# Altium footprint library Discrete.PcbLib: 34 footprints (part 3 of 3)
Each footprint in its own frame and in the unit in brackets; x right, y up, seen from the top. Pads: shape width x height; smd on the part's side, far side on the other; paste and mask are expansions set on the pad; w line width, h text height; cw(c..) or ccw(c..) is an arc to the next point about the centre after c.
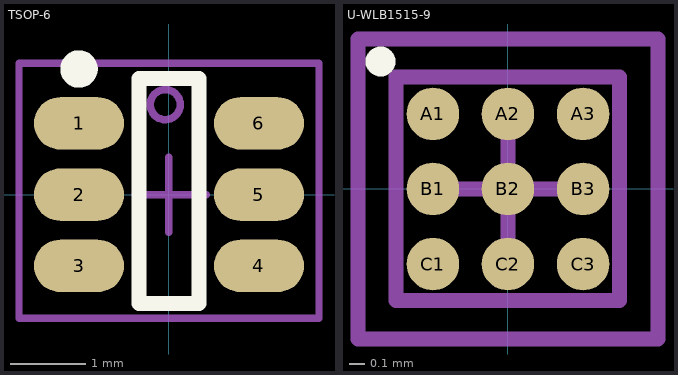
[diagram p2: the footprints below, top view; thin cyan lines are the x and y axes]

## TSOP-6 [mm] "TSOP-6"
height 1.2
pads (6):
  oval 1.2x0.7 smd: 1(-1.2,0.95) 2(-1.2,0) 3(-1.2,-0.95) 4(1.2,-0.95) 5(1.2,0) 6(1.2,0.95)
Top Overlay:
  circle w0.25: c-1.2,1.675 r0.125
  lines w0.2: -0.4,-1.45 0.4,-1.45 0.4,1.55 -0.4,1.55 -0.4,-1.45
Mechanical 13:
  circle w0.1: c-0.05,1.2 r0.2
  lines w0.1: -0.4,-1.45 0.4,-1.45 0.4,1.55 -0.4,1.55 -0.4,-1.45
  text ".Designator" at -0.8,-1.55 h0.5
Mechanical 15:
  lines w0.1: -0.45,0 0.5,0 ; 0,-0.5 0,0.5 ; -2,-1.65 2,-1.65 2,1.75 -2,1.75 -2,-1.65
3D body: height 1.2, standoff 0.1, extent -0.4,-1.45 0.4,1.55

## U-WLB1515-9 [mm] "BGA, 9-Leads, Body 1.49x1.49mmx0.62mm, Pitch 0.50mm"
height 0.62
pads (9):
  round 0.35 smd mask+0: A1(-0.5,0.5) A2(0,0.5) A3(0.5,0.5) B1(-0.5,0) B2(0,0) B3(0.5,0) C1(-0.5,-0.5) C2(0,-0.5) C3(0.5,-0.5)
Top Overlay:
  circle w0.1: c-0.85,0.85 r0.05
Mechanical 13:
  lines w0.1: -0.745,-0.745 -0.745,0.745 0.745,0.745 0.745,-0.745 -0.745,-0.745
Mechanical 15:
  lines w0.1: -0.5,0 0.5,0 ; 0,-0.5 0,0.5 ; -1,-1 -1,1 1,1 1,-1 -1,-1
3D body: height 0.62, standoff 0.26, extent -0.745,-0.745 0.745,0.745